# EAGLE library part TPS61085DGKR (library dc-converters)
18.5V, 2A, 650kHz / 1.2MHz Step-Up DC-DC Converter w/ Forced PWM Mode Source: Datasheet <http://www.ti.com/general/docs/suppproductinfo.tsp?distId=10&gotoUrl=http://www.ti.com/lit/gpn/tps61085>
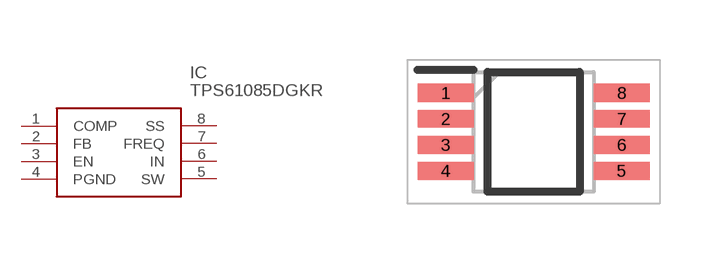
[diagram p0: symbol with the pads of SOP65P490X110-8N; footprint SOP65P490X110-8N]

Designator prefix IC

## TPS61085DGKR (DESCRIPTION: 18.5V, 2A, 650kHz / 1.2MHz Step-Up DC-DC Converter w/ Forced PWM Mode; HEIGHT: 1.1mm; MANUFACTURER_NAME: Texas Instruments; MANUFACTURER_PART_NUMBER: TPS61085DGKR; MOUSER_PART_NUMBER: 595-TPS61085DGKR; MOUSER_PRICE-STOCK: https://www.mouser.co.uk/ProductDetail/Texas-Instruments/TPS61085DGKR?qs=59Rn2Bt6jP0PB7IUu7UPlw%3D%3D)  [SOP65P490X110-8N]
1  COMP
2  FB
3  EN
4  PGND
5  SW
6  IN
7  FREQ
8  SS

## Footprint SOP65P490X110-8N (pad centres in mm)
DGK (S-PDSO-G8)
smd 1.4 x 0.45: 1 -2.2,0.975; 2 -2.2,0.325; 3 -2.2,-0.325; 4 -2.2,-0.975; 5 2.2,-0.975; 6 2.2,-0.325; 7 2.2,0.325; 8 2.2,0.975